# Altium schematic symbol library HydrogreenSchematicLibrary.SchLib: 60 symbols (part 3 of 4)
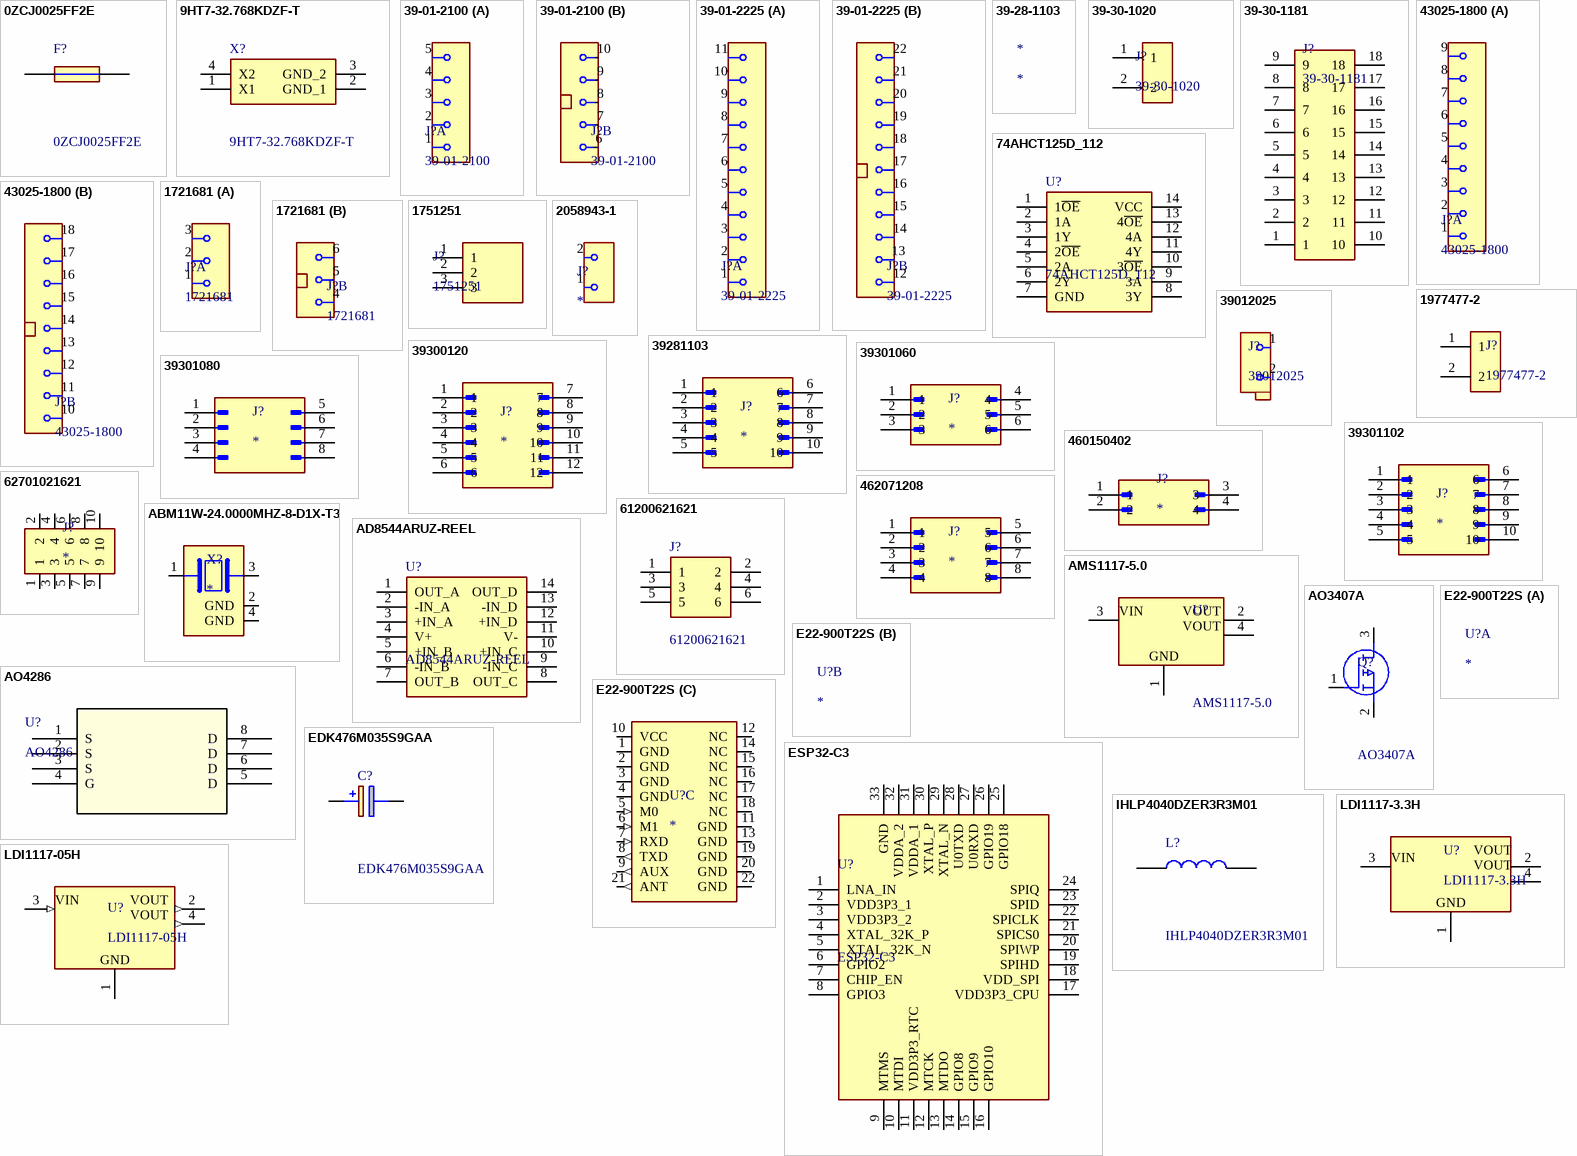
[diagram p3: symbols 0ZCJ0025FF2E to LDI1117-05H]

## IHLP4040DZER3R3M01
designator L?
Inductor High Current Shielded Wirewound 3.3uH 20% 100KHz 10A 11.8mOhm DCR 4040 T/R; Manufacturer_Name: Vishay; Geometry.Height: 4mm; Core Material: Composite; DC Resistance (DCR): 11.8mΩ; Value: 3.3µH; Max DC Current: 18.6A; Number of Circuits: 1; Self Resonant Frequency: 5MHz; ESR: 14.4mΩ; Shielding: Yes; Manufacturer_Part_Number: IHLP4040DZER3R3M01; Mouser Part Number: 70-IHLP4040DZER3R3M0; Mouser Price/Stock: https://www.mouser.co.uk/ProductDetail/Vishay-Dale/IHLP4040DZER3R3M01?qs=UUKq9QDXQ0nKJM%252B3xlQGHA%3D%3D; Arrow Part Number: IHLP4040DZER3R3M01; Arrow Price/Stock: https://www.arrow.com/en/products/ihlp4040dzer3r3m01/vishay?region=nac; Datasheet Link: https://www.vishay.com/docs/34193/ihlp-4040dz-01.pdf; Supplier: Farnell; Supplier Part Number: 1547037; Manufacturer: Vishay; Manufacturer Part Number: IHLP4040DZER3R3M01; RoHS: Compliant; Category: Fixed Inductors; Stock: 559; Case/Package: 4040; Case Code (Imperial): 4040; China RoHS: Compliant; Composition: Wirewound; Contact Plating: Tin; Current Rating: 10A; Depth: 10.3mm; Height: 4mm; Height - Seated (Max): 3.9878mm; Inductance Tolerance: 20%; Lead Free: Lead Free; Lifecycle Status: Production; Max Current Rating: 10A; Max Operating Temperature: 125°C; Military Standard: Not; Min Operating Temperature: -55°C; Mounting Technology: Surface Mount; Number of Terminals: 2; Radiation Hardening: No; REACH SVHC: Yes; RMS Current (Irms): 10A; Saturation Current: 18.6A; Schedule B: 8504500000, 8504500000|8504500000|8504500000|8504500000|8504500000; Termination: SMD/SMT; Test Frequency: 100kHz; Tolerance: 20%; Weight: 2.000002g; Width: 10.16mm; ComponentLink1URL: https://datasheet.octopart.com:443/IHLP4040DZER3R3M01-Vishay-datasheet-181468593.pdf?src-supplier=IHS; ComponentLink1Description: https://datasheet.octopart.com:443/IHLP4040DZER3R3M01-Vishay-datasheet-181468593.pdf?src-supplier=IHS; ComponentLink2URL: https://datasheet.octopart.com:443/IHLP4040DZER3R3M01-Vishay-Dale-datasheet-181465866.pdf?src-supplier=IHS; ComponentLink2Description: https://datasheet.octopart.com:443/IHLP4040DZER3R3M01-Vishay-Dale-datasheet-181465866.pdf?src-supplier=IHS; ComponentLink3URL: https://datasheet.octopart.com:443/IHLP4040DZER3R3M01-Vishay-datasheet-67039456.pdf?src-supplier=Farnell; ComponentLink3Description: https://datasheet.octopart.com:443/IHLP4040DZER3R3M01-Vishay-datasheet-67039456.pdf?src-supplier=Farnell; ComponentLink4URL: https://datasheet.octopart.com:443/IHLP4040DZER3R3M01-Vishay-datasheet-167142.pdf?src-supplier=Farnell; ComponentLink4Description: https://datasheet.octopart.com:443/IHLP4040DZER3R3M01-Vishay-datasheet-167142.pdf?src-supplier=Farnell; ComponentLink5URL: https://datasheet.octopart.com/IHLP4040DZER3R3M01-Vishay-datasheet-12542609.pdf; ComponentLink5Description: https://datasheet.octopart.com/IHLP4040DZER3R3M01-Vishay-datasheet-12542609.pdf; ComponentLink6URL: https://datasheet.octopart.com/IHLP4040DZER3R3M01-Vishay-datasheet-12537444.pdf; ComponentLink6Description: https://datasheet.octopart.com/IHLP4040DZER3R3M01-Vishay-datasheet-12537444.pdf; ComponentLink7URL: https://datasheet.octopart.com/IHLP4040DZER3R3M01-Vishay-datasheet-12514016.pdf; ComponentLink7Description: https://datasheet.octopart.com/IHLP4040DZER3R3M01-Vishay-datasheet-12514016.pdf; ComponentLink8URL: https://datasheet.octopart.com/IHLP4040DZER3R3M01-Vishay-datasheet-5394347.pdf; ComponentLink8Description: https://datasheet.octopart.com/IHLP4040DZER3R3M01-Vishay-datasheet-5394347.pdf; ComponentLink9URL: https://datasheet.octopart.com:443/IHLP4040DZER3R3M01-Vishay-datasheet-8434461.pdf?src-supplier=Newark; ComponentLink9Description: https://datasheet.octopart.com:443/IHLP4040DZER3R3M01-Vishay-datasheet-8434461.pdf?src-supplier=Newark; ComponentLink10URL: https://datasheet.octopart.com:443/IHLP4040DZER3R3M01-Vishay-datasheet-62320562.pdf?src-supplier=element14+APAC; ComponentLink10Description: https://datasheet.octopart.com:443/IHLP4040DZER3R3M01-Vishay-datasheet-62320562.pdf?src-supplier=element14+APAC; ComponentLink11URL: https://datasheet.octopart.com:443/IHLP4040DZER3R3M01-Vishay-datasheet-101783941.pdf?src-supplier=Future+Electronics; ComponentLink11Description: https://datasheet.octopart.com:443/IHLP4040DZER3R3M01-Vishay-datasheet-101783941.pdf?src-supplier=Future+Electronics; ComponentLink12URL: https://datasheet.octopart.com:443/IHLP4040DZER3R3M01-Vishay-datasheet-12531877.pdf?src-supplier=Future+Electronics; ComponentLink12Description: https://datasheet.octopart.com:443/IHLP4040DZER3R3M01-Vishay-datasheet-12531877.pdf?src-supplier=Future+Electronics; ComponentLink13URL: https://datasheet.octopart.com:443/IHLP4040DZER3R3M01-Vishay-Dale-datasheet-42936488.pdf?src-supplier=RS+(Formerly+Allied+Electronics); ComponentLink13Description: https://datasheet.octopart.com:443/IHLP4040DZER3R3M01-Vishay-Dale-datasheet-42936488.pdf?src-supplier=RS+(Formerly+Allied+Electronics); ComponentLink14URL: https://datasheet.octopart.com:443/IHLP4040DZER3R3M01-Vishay-datasheet-140572121.pdf?src-supplier=Arrow.cn; ComponentLink14Description: https://datasheet.octopart.com:443/IHLP4040DZER3R3M01-Vishay-datasheet-140572121.pdf?src-supplier=Arrow.cn; ComponentLink15URL: http://sigma.octopart.com:80/rohs_statement/Vishay-company-15.pdf?src-supplier=Compliance+Statements; ComponentLink15Description: http://sigma.octopart.com:80/rohs_statement/Vishay-company-15.pdf?src-supplier=Compliance+Statements
footprint IHLP4040DZER3R3M01
pins: 1, 2

## LDI1117-3.3H
designator U?
Fixed Positive LDO Regulator; Manufacturer: Diotec; Supplier: Mouser; Supplier Part Number: 637-LDI1117-3.3H; Manufacturer Part Number: LDI1117-3.3H; RoHS: No; Category: Voltage Regulators - Linear; Stock: 5056; Pricing: 1=0,4, 10=0,286, 50=0,286, 100=0,199, 1000=0,163, 10000=0,089 (USD); ComponentLink1URL: https://datasheet.octopart.com/LDI1117-3.3H-Diotec-datasheet-154607892.pdf?src-supplier=TME; ComponentLink1Description: https://datasheet.octopart.com/LDI1117-3.3H-Diotec-datasheet-154607892.pdf?src-supplier=TME; ComponentLink2URL: https://datasheet.octopart.com/LDI1117-3.3H-Diotec-datasheet-159101088.pdf?src-supplier=SOS+electronic; ComponentLink2Description: https://datasheet.octopart.com/LDI1117-3.3H-Diotec-datasheet-159101088.pdf?src-supplier=SOS+electronic; ComponentLink3URL: https://datasheet.octopart.com/LDI1117-3.3H-Diotec-datasheet-189099648.pdf?src-supplier=Master+Electronics; ComponentLink3Description: https://datasheet.octopart.com/LDI1117-3.3H-Diotec-datasheet-189099648.pdf?src-supplier=Master+Electronics
footprint LDI1117-3.3H (LDI1117-3.3H, 4-Leads)
pins: 1, 2 (power), 3 (power), 4 (power)
text: VOUT; VIN; GND

## LDI1117-05H
designator U?
Fixed Positive LDO Regulator; Manufacturer: Diotec; Supplier: Farnell; Supplier Part Number: 4553249; Manufacturer Part Number: LDI1117-05H; RoHS: No; Category: Voltage Regulators - Linear; Stock: 720; RoHS Compliant: Yes; ComponentLink1URL: http://datasheet.octopart.com/LDI1117-05H-Diotec-datasheet-154607892.pdf?src-supplier=Mouser; ComponentLink1Description: http://datasheet.octopart.com/LDI1117-05H-Diotec-datasheet-154607892.pdf?src-supplier=Mouser; ComponentLink2URL: http://datasheet.octopart.com/LDI1117-05H-Diotec-datasheet-154607892.pdf?src-supplier=Distrelec; ComponentLink2Description: http://datasheet.octopart.com/LDI1117-05H-Diotec-datasheet-154607892.pdf?src-supplier=Distrelec; ComponentLink3URL: http://datasheet.octopart.com/LDI1117-05H-Diotec-datasheet-154607892.pdf?src-supplier=Onlinecomponents.com; ComponentLink3Description: http://datasheet.octopart.com/LDI1117-05H-Diotec-datasheet-154607892.pdf?src-supplier=Onlinecomponents.com; ComponentLink4URL: http://datasheet.octopart.com/LDI1117-05H-Diotec-datasheet-154607892.pdf?src-supplier=DComponents; ComponentLink4Description: http://datasheet.octopart.com/LDI1117-05H-Diotec-datasheet-154607892.pdf?src-supplier=DComponents; ComponentLink5URL: https://datasheet.octopart.com/LDI1117-05H-Diotec-datasheet-154607892.pdf?src-supplier=TME; ComponentLink5Description: https://datasheet.octopart.com/LDI1117-05H-Diotec-datasheet-154607892.pdf?src-supplier=TME; ComponentLink6URL: https://datasheet.octopart.com/LDI1117-05H-Diotec-datasheet-159101088.pdf?src-supplier=SOS+electronic; ComponentLink6Description: https://datasheet.octopart.com/LDI1117-05H-Diotec-datasheet-159101088.pdf?src-supplier=SOS+electronic; ComponentLink7URL: http://datasheet.octopart.com/LDI1117-05H-Diotec-datasheet-154607892.pdf?src-supplier=Electro+Sonic; ComponentLink7Description: http://datasheet.octopart.com/LDI1117-05H-Diotec-datasheet-154607892.pdf?src-supplier=Electro+Sonic; ComponentLink8URL: https://datasheet.octopart.com/LDI1117-05H-Diotec-datasheet-189099648.pdf?src-supplier=Master+Electronics; ComponentLink8Description: https://datasheet.octopart.com/LDI1117-05H-Diotec-datasheet-189099648.pdf?src-supplier=Master+Electronics
footprint LDI1117-05H (SOT223, 4-Leads)
pins: 1, 2 (out), 3 (in), 4 (out)
text: VIN; VOUT; GND

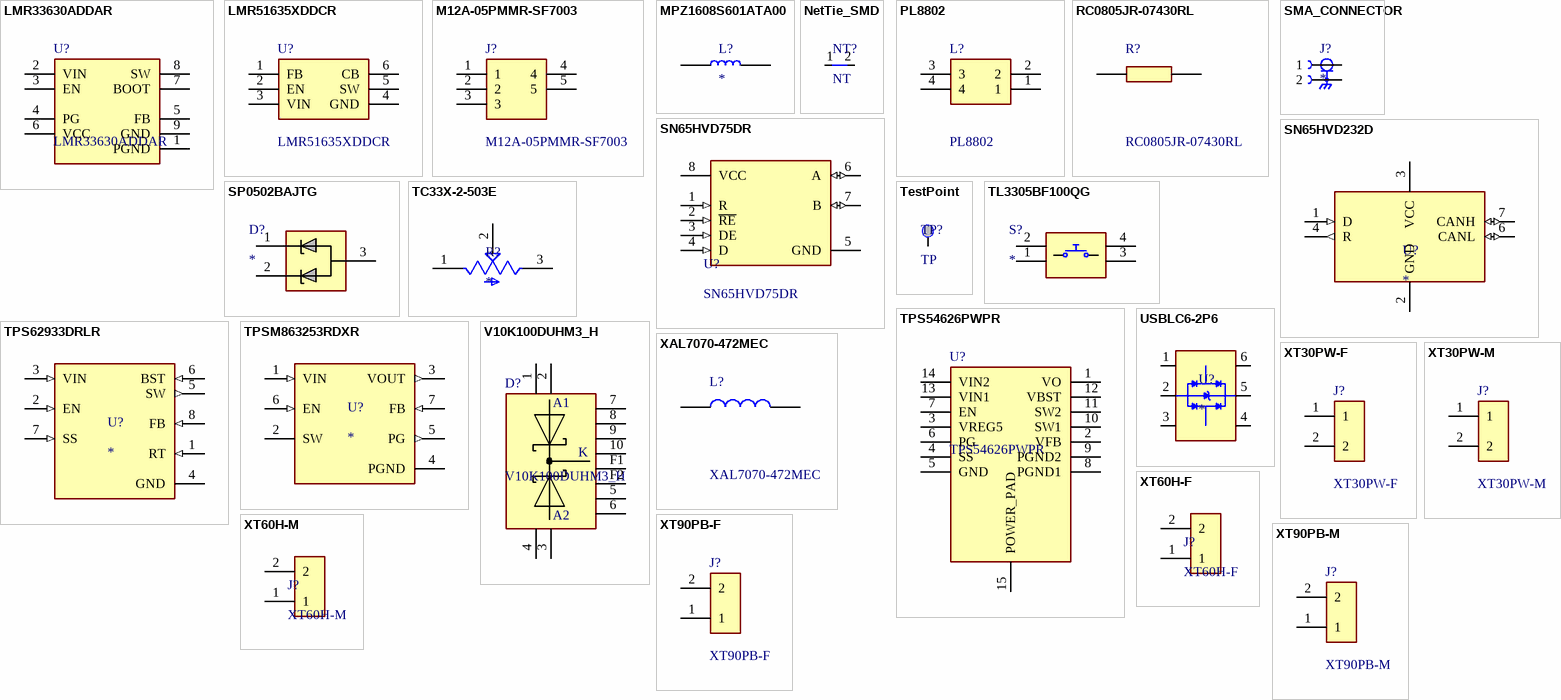
[diagram p1: symbols LMR33630ADDAR to XT90PB-M]

## LMR33630ADDAR
designator U?
SIMPLE SWITCHER® 3.8V to 36V, 3A Synchronous Buck Converter With Ultra-Low EMI 8-SO PowerPAD -40 to 125; Manufacturer_Name: Texas Instruments; Manufacturer Lifecycle Status: ACTIVE; Geometry.Height: 1.7mm; Max Duty Cycle: 98%; Max Junction Temperature (Tj): 150°C; Nominal Supply Current: 24µA; Number of Channels: 1; Switching Frequency: 400kHz; Manufacturer_Part_Number: LMR33630ADDAR; Mouser Part Number: 595-LMR33630ADDAR; Mouser Price/Stock: https://www.mouser.co.uk/ProductDetail/Texas-Instruments/LMR33630ADDAR?qs=r5DSvlrkXmJQkBTqgVdiDA%3D%3D; Arrow Part Number: LMR33630ADDAR; Arrow Price/Stock: https://www.arrow.com/en/products/lmr33630addar/texas-instruments?utm_currency=USD&region=nac; Datasheet Link: http://www.ti.com/lit/gpn/lmr33630; Supplier: DigiKey; Supplier Part Number: 296-49763-1-ND; Manufacturer: Texas Instruments; Manufacturer Part Number: LMR33630ADDAR; RoHS: Compliant; Category: Voltage Regulators - Switching; Stock: 3306; Pricing: 1=2,55, 10=1,895, 25=1,732, 100=1,5527, 250=1,4672, 500=1,41566, 1000=1,37324 (USD); Height: 1.7mm; Length: 4.89mm; Lifecycle Status: Production; Max Operating Temperature: 125°C; Max Supply Voltage: 36V; Min Operating Temperature: -40°C; Min Supply Voltage: 3.8V; Number of Outputs: 1; Pins: 8; Output Current: 3A; Schedule B: 8542390000; Thickness: 1.48mm; Topology: Buck; Width: 3.9mm; ComponentLink1URL: https://octopart.com:443/opatz8j6/c1?t=vB-rOmDI1ErJ0w3fCj8NLsfgClszgTUVbAqCYHM5mRqgzR9RBB5Pla--LZzs2g-5lBj7oDBEHLOY0DNQ8kiPC6C8g1CaFcIk5xusZs0FtDRH-CQ1FAZX0wQ7Af0vopd1OvNJ_Hrieycu-9D8HxSeoZovH4OJEcn7j74SeItdt-lCJsWpQWgV8-mVR1JIQ1KywJKCZ68bDiAWG91PubKPct48upMq1AnCkLHjDL3bhpicF0q3kjtxBAWzeDQzkpoQooz9GAvObiI6PlzZfk112pcCDh0P81IWp_Rr5acb26OlKDk2j5b40au3vy2C1-LFGDaZycRESUfyv9lqHnr9FsK7A0AJECnAAloOYp_c-_g9Mk5jVvAjSOs1Y_7rtCi9vouLs8vl&src-supplier=Texas+Instruments; ComponentLink1Description: https://octopart.com:443/opatz8j6/c1?t=vB-rOmDI1ErJ0w3fCj8NLsfgClszgTUVbAqCYHM5mRqgzR9RBB5Pla--LZzs2g-5lBj7oDBEHLOY0DNQ8kiPC6C8g1CaFcIk5xusZs0FtDRH-CQ1FAZX0wQ7Af0vopd1OvNJ_Hrieycu-9D8HxSeoZovH4OJEcn7j74SeItdt-lCJsWpQWgV8-mVR1JIQ1KywJKCZ68bDiAWG91PubKPct48upMq1AnCkLHjDL3bhpicF0q3kjtxBAWzeDQzkpoQooz9GAvObiI6PlzZfk112pcCDh0P81IWp_Rr5acb26OlKDk2j5b40au3vy2C1-LFGDaZycRESUfyv9lqHnr9FsK7A0AJECnAAloOYp_c-_g9Mk5jVvAjSOs1Y_7rtCi9vouLs8vl&src-supplier=Texas+Instruments; ComponentLink2URL: https://sigma.octopart.com:443/104526336/technical_drawing/Texas-Instruments-LMR33630ADDAR.pdf?src-supplier=Texas+Instruments; ComponentLink2Description: https://sigma.octopart.com:443/104526336/technical_drawing/Texas-Instruments-LMR33630ADDAR.pdf?src-supplier=Texas+Instruments; ComponentLink3URL: https://sigma.octopart.com:443/49250132/technical_drawing/Texas-Instruments-LMR33630ADDAR.pdf?src-supplier=Texas+Instruments; ComponentLink3Description: https://sigma.octopart.com:443/49250132/technical_drawing/Texas-Instruments-LMR33630ADDAR.pdf?src-supplier=Texas+Instruments; ComponentLink4URL: https://datasheet.octopart.com:443/LMR33630ADDAR-Texas-Instruments-datasheet-148393519.pdf?src-supplier=Upverter; ComponentLink4Description: https://datasheet.octopart.com:443/LMR33630ADDAR-Texas-Instruments-datasheet-148393519.pdf?src-supplier=Upverter; ComponentLink5URL: https://datasheet.octopart.com:443/LMR33630ADDAR-Texas-Instruments-datasheet-163730535.pdf?src-supplier=LCSC; ComponentLink5Description: https://datasheet.octopart.com:443/LMR33630ADDAR-Texas-Instruments-datasheet-163730535.pdf?src-supplier=LCSC; ComponentLink6URL: http://sigma.octopart.com:80/reach_statement/Texas-Instruments-company-64.pdf?src-supplier=Compliance+Statements; ComponentLink6Description: http://sigma.octopart.com:80/reach_statement/Texas-Instruments-company-64.pdf?src-supplier=Compliance+Statements; ComponentLink7URL: http://sigma.octopart.com:80/conflict_mineral_statement/Texas-Instruments-company-63.pdf?src-supplier=Compliance+Statements; ComponentLink7Description: http://sigma.octopart.com:80/conflict_mineral_statement/Texas-Instruments-company-63.pdf?src-supplier=Compliance+Statements
footprint LMR33630ADDAR
pins: 1 PGND, 2 VIN, 3 EN, 4 PG, 5 FB, 6 VCC, 7 BOOT, 8 SW, 9 GND

## LMR51635XDDCR
designator U?
SIMPLE SWITCHER® synchronous buck converter with 4.3V-to-60V, 3.5A and low quiescent current 6-SOT-23-THIN -40 to 150; Manufacturer_Name: Texas Instruments; Manufacturer Lifecycle Status: ACTIVE; Geometry.Height: 1.1mm; Manufacturer_Part_Number: LMR51635XDDCR; Mouser Part Number: 595-LMR51635XDDCR; Mouser Price/Stock: https://www.mouser.co.uk/ProductDetail/Texas-Instruments/LMR51635XDDCR?qs=a2MtRaTmNORRY9iTmYV%2Fiw%3D%3D; Arrow Part Number: LMR51635XDDCR; Arrow Price/Stock: https://www.arrow.com/en/products/lmr51635xddcr/texas-instruments.html?utm_currency=USD&region=nac; Datasheet Link: https://www.ti.com/lit/gpn/lmr51635; Supplier: DigiKey; Supplier Part Number: 296-LMR51635XDDCRTR-ND; Manufacturer: Texas Instruments; Manufacturer Part Number: LMR51635XDDCR; RoHS: Compliant; Category: Voltage Regulators - Switching; Pricing: 3000=1,10746, 6000=1,08526, 9000=1,07414 (USD); Height: 1.1mm; Length: 2.9mm; Lifecycle Status: Production; Pins: 6; Thickness: 870µm; Topology: Buck; Width: 1.6mm; ComponentLink1URL: https://sigma.octopart.com:443/180581133/technical_drawing/Texas-Instruments-LMR51635XDDCR.pdf?src-supplier=Texas+Instruments; ComponentLink1Description: https://sigma.octopart.com:443/180581133/technical_drawing/Texas-Instruments-LMR51635XDDCR.pdf?src-supplier=Texas+Instruments; ComponentLink2URL: https://octopart.com:443/opatz8j6/c1?t=zYAcKO1b2BuCjQqHJRk95iTfK4iB_yHLSmTWd_qv9lrRVn0ee9w5Fogr-IpSDf9nujr5PsrcF1pW8mdDUbSPd080MnVaAFboPnr7Qg4PARm9QmOo_OlA32xGNCaFVXUnWENUQXHepp5JsRY8FtOSKtsYIYA8JqdrZ1FpDRG1K42uV8Id80lHWwzz25ige_A8eS7EUGoUqWm9QsfjiKgygmFSagWtonOXSl0D9zPtjFpvpUrjgxxXhGMxWd9CPkqF7o9dmPS-j41oLprCi030Yezu5ft5kMmDUBcXrU_soKh1X_gZX2R2Z1thJUqeN5FQwSguqfC1AxhgS_q1FOAxiFuiCfK0s3IV4lUrRa5IZLyuWzwJYxQyu58VazSqZz7L1McKq_h3dA&src-supplier=Texas+Instruments; ComponentLink2Description: https://octopart.com:443/opatz8j6/c1?t=zYAcKO1b2BuCjQqHJRk95iTfK4iB_yHLSmTWd_qv9lrRVn0ee9w5Fogr-IpSDf9nujr5PsrcF1pW8mdDUbSPd080MnVaAFboPnr7Qg4PARm9QmOo_OlA32xGNCaFVXUnWENUQXHepp5JsRY8FtOSKtsYIYA8JqdrZ1FpDRG1K42uV8Id80lHWwzz25ige_A8eS7EUGoUqWm9QsfjiKgygmFSagWtonOXSl0D9zPtjFpvpUrjgxxXhGMxWd9CPkqF7o9dmPS-j41oLprCi030Yezu5ft5kMmDUBcXrU_soKh1X_gZX2R2Z1thJUqeN5FQwSguqfC1AxhgS_q1FOAxiFuiCfK0s3IV4lUrRa5IZLyuWzwJYxQyu58VazSqZz7L1McKq_h3dA&src-supplier=Texas+Instruments; ComponentLink3URL: https://datasheet.octopart.com:443/LMR51635XDDCR-Texas-Instruments-datasheet-190072754.pdf?src-supplier=LCSC; ComponentLink3Description: https://datasheet.octopart.com:443/LMR51635XDDCR-Texas-Instruments-datasheet-190072754.pdf?src-supplier=LCSC; ComponentLink4URL: http://sigma.octopart.com:80/reach_statement/Texas-Instruments-company-64.pdf?src-supplier=Compliance+Statements; ComponentLink4Description: http://sigma.octopart.com:80/reach_statement/Texas-Instruments-company-64.pdf?src-supplier=Compliance+Statements; ComponentLink5URL: http://sigma.octopart.com:80/conflict_mineral_statement/Texas-Instruments-company-63.pdf?src-supplier=Compliance+Statements; ComponentLink5Description: http://sigma.octopart.com:80/conflict_mineral_statement/Texas-Instruments-company-63.pdf?src-supplier=Compliance+Statements
footprint LMR51635XDDCR
pins: 1 FB, 2 EN, 3 VIN, 4 GND, 5 SW, 6 CB

## M12A-05PMMR-SF7003
designator J?
M12, A Code, 4A, 05 pins, Male Contact, Hexagonal, M12*1.0, PCB 90ø, Front Fastened, IP67; Manufacturer_Name: Amphenol; Manufacturer: Amphenol LTW; Geometry.Height: 15mm; Connector Type: Signal; Number of Positions: 5; Voltage Rating: 60V; Manufacturer_Part_Number: M12A-05PMMR-SF7003; Mouser Part Number: 523-M12A05PMMRSF7003; Mouser Price/Stock: https://www.mouser.co.uk/ProductDetail/Amphenol-LTW/M12A-05PMMR-SF7003?qs=f9yNj16SXrIdWSE1H9dLLQ%3D%3D; Arrow Part Number: M12A-05PMMR-SF7003; Arrow Price/Stock: https://www.arrow.com/en/products/m12a-05pmmr-sf7003/amphenol?utm_currency=USD&region=nac; Datasheet Link: https://amphenolltw.com/down.php?prod_files=605433; Supplier: Avnet; Supplier Part Number: 50AC2957; Manufacturer Part Number: M12A-05PMMR-SF7003; RoHS: Compliant; Category: Circular Connectors; Stock: 32; Current Rating: 4A; Gender: Male; Lifecycle Status: Production; Pins: 5; ComponentLink1URL: https://datasheet.octopart.com:443/M12A-05PMMR-SF7003-Amphenol-datasheet-182346588.pdf?src-supplier=IHS; ComponentLink1Description: https://datasheet.octopart.com:443/M12A-05PMMR-SF7003-Amphenol-datasheet-182346588.pdf?src-supplier=IHS; ComponentLink2URL: https://datasheet.octopart.com:443/M12A-05PMMR-SF7003-Amphenol-LTW-datasheet-184719079.pdf?src-supplier=TME; ComponentLink2Description: https://datasheet.octopart.com:443/M12A-05PMMR-SF7003-Amphenol-LTW-datasheet-184719079.pdf?src-supplier=TME; ComponentLink3URL: https://datasheet.octopart.com:443/M12A-05PMMR-SF7003-Amphenol-LTW-datasheet-180194516.pdf?src-supplier=JRH+Electronics; ComponentLink3Description: https://datasheet.octopart.com:443/M12A-05PMMR-SF7003-Amphenol-LTW-datasheet-180194516.pdf?src-supplier=JRH+Electronics
footprint M12A05PMMRSF7003
pins: 1, 2, 3, 4, 5

## MPZ1608S601ATA00
designator L?
Ferrite Beads Multi-Layer 600Ohm 25% 100MHz 1A 0.15Ohm DCR 0603 T/R; Manufacturer Lifecycle Status: PRODUCTION; MF: TDK; MP: MPZ1608S601ATA00; DC Resistance (DCR): 150mΩ; Impedance: 600Ω; Number of Circuits: 1; SnapEDA_Link: https://www.snapeda.com/parts/MPZ1608S601ATA00/TDK/view-part/?ref=snap; Package: 0603 TDK; Value: *; Check_prices: https://www.snapeda.com/parts/MPZ1608S601ATA00/TDK/view-part/?ref=eda; Supplier: Farnell; Supplier Part Number: 2800777; Manufacturer: TDK; Manufacturer Part Number: MPZ1608S601ATA00; RoHS: Compliant; Category: Ferrite Beads and Chips; Stock: 80000; Case/Package: 0603; Case Code (Imperial): 0603; Case Code (Metric): 1608; China RoHS: Compliant; Core Material: Ferrite; Current Rating: 1A; Depth: 800µm; Height: 800µm; Lead Free: Lead Free; Length: 1.6mm; Lifecycle Status: Production; Max DC Current: 1A; Clock Frequency: 100MHz; Max Length: 1.75mm; Max Operating Temperature: 125°C; Max Width: 950µm; Min Length: 1.45mm; Min Operating Temperature: -55°C; Min Width: 650µm; Mounting Technology: Surface Mount; Number of Terminals: 2; Packaging: Cut Tape; REACH SVHC: Yes; RMS Current (Irms): 1A; Schedule B: 8504500000, 8504500000|8504500000|8504500000|8504500000|8504500000; ESR: 150mΩ; Termination: SMD/SMT; Test Frequency: 100MHz; Tolerance: 25%; Weight: 2.012816mg; Width: 800µm; ComponentLink1URL: https://datasheet.octopart.com:443/MPZ1608S601ATA00-TDK-datasheet-155380319.pdf?src-supplier=TDK; ComponentLink1Description: https://datasheet.octopart.com:443/MPZ1608S601ATA00-TDK-datasheet-155380319.pdf?src-supplier=TDK; ComponentLink2URL: https://datasheet.octopart.com:443/MPZ1608S601ATA00-TDK-datasheet-141913842.pdf?src-supplier=TME; ComponentLink2Description: https://datasheet.octopart.com:443/MPZ1608S601ATA00-TDK-datasheet-141913842.pdf?src-supplier=TME; ComponentLink3URL: https://datasheet.octopart.com:443/MPZ1608S601ATA00-TDK-datasheet-82475260.pdf?src-supplier=Newark; ComponentLink3Description: https://datasheet.octopart.com:443/MPZ1608S601ATA00-TDK-datasheet-82475260.pdf?src-supplier=Newark; ComponentLink4URL: https://datasheet.octopart.com:443/MPZ1608S601ATA00-TDK-datasheet-99917310.pdf?src-supplier=Newark; ComponentLink4Description: https://datasheet.octopart.com:443/MPZ1608S601ATA00-TDK-datasheet-99917310.pdf?src-supplier=Newark; ComponentLink5URL: https://datasheet.octopart.com:443/MPZ1608S601ATA00-TDK-datasheet-8852356.pdf?src-supplier=Newark; ComponentLink5Description: https://datasheet.octopart.com:443/MPZ1608S601ATA00-TDK-datasheet-8852356.pdf?src-supplier=Newark; ComponentLink6URL: https://datasheet.octopart.com:443/MPZ1608S601ATA00-TDK-datasheet-21631858.pdf?src-supplier=Farnell; ComponentLink6Description: https://datasheet.octopart.com:443/MPZ1608S601ATA00-TDK-datasheet-21631858.pdf?src-supplier=Farnell; ComponentLink7URL: https://datasheet.octopart.com:443/MPZ1608S601ATA00-TDK-datasheet-38423207.pdf?src-supplier=Future+Electronics; ComponentLink7Description: https://datasheet.octopart.com:443/MPZ1608S601ATA00-TDK-datasheet-38423207.pdf?src-supplier=Future+Electronics
footprint INDC1608X95N
pins: 1, 2

## NetTie_SMD
designator NT?, comment NT  (net tie, no BOM)
Net Tie SMD
footprint NetTie_SMD
pins: 1, 2

## PL8802
designator L?
Common Mode Choke, 3000uH, 30%, 2 Element, SMD, 9170; Manufacturer_Name: iNRCORE; Geometry.Height: 13.2mm; Current Rating: 2.5A; DC Resistance (DCR): 80mΩ; Value: 3mH; Number of Circuits: 2; Self Resonant Frequency: 2.2MHz; Shielding: Unshielded; Voltage Rating: 250V; Manufacturer_Part_Number: PL8802; Mouser Part Number: 673-PL8802; Mouser Price/Stock: https://www.mouser.co.uk/ProductDetail/iNRCORE/PL8802?qs=BZBei1rCqCCAwZH68Kczkw%3D%3D; Arrow Part Number: *; Arrow Price/Stock: *; Datasheet Link: https://www.mouser.co.uk/datasheet/2/937/M116-1384936.pdf; Supplier: Mouser; Supplier Part Number: 673-PL8802; Manufacturer: iNRCORE; Manufacturer Part Number: PL8802; Category: Fixed Inductors; Stock: 195; Pricing: 1=16,33, 10=16,32, 50=14,59, 100=14,59, 1000=13,36, 10000=13,36 (USD); Export Control Classification Number (ECCN) Code: EAR99; Height: 12.95mm; Harmonized Tariff Schedule (HTS) Code: 8504.50.80.00; Introduction Date: 2006-02-14; Length: 23.11mm; Lifecycle Status: Production; Max Current Rating: 2.5A; Max Operating Temperature: 130°C; Min Operating Temperature: -55°C; Number of Terminals: 4; Tolerance: 30%; Width: 17.78mm; ComponentLink1URL: https://datasheet.octopart.com:443/PL8802-iNRCORE-datasheet-180095662.pdf?src-supplier=IHS; ComponentLink1Description: https://datasheet.octopart.com:443/PL8802-iNRCORE-datasheet-180095662.pdf?src-supplier=IHS
footprint PL8802
pins: 1, 2, 3, 4

## RC0805JR-07430RL
designator R?
RC Series 0805 0.125 W 430 Ohm ±5% ±100 ppm/°C SMT Thick Film Chip Resistor; Manufacturer_Name: Yageo Group; Geometry.Height: 0.6mm; Max Power Dissipation: 125mW; Value: 430Ω; Voltage Rating: 150V; Manufacturer_Part_Number: RC0805JR-07430RL; Mouser Part Number: *; Mouser Price/Stock: *; Arrow Part Number: *; Arrow Price/Stock: *; Datasheet Link: http://www.yageo.com/documents/recent/PYu-RC_Group_51_RoHS_L_10.pdf; Supplier: Farnell; Supplier Part Number: 3496126; Manufacturer: Yageo Group; Manufacturer Part Number: RC0805JR-07430RL; RoHS: Compliant; Category: Chip SMD Resistors; Stock: 10100; Case/Package: 0805; Case Code (Imperial): 0805; China RoHS: Non-Compliant; Composition: Thick Film; Contact Plating: Lead, Tin; Depth: 1.25mm; Features: Moisture Resistant; Height: 500µm; Lead Free: Lead Free; Length: 2mm; Lifecycle Status: Production; Max Operating Temperature: 155°C; Military Standard: Not; Min Operating Temperature: -55°C; Mounting Technology: Surface Mount; Number of Terminals: 2; Number of Terminations: 2; Packaging: Tape & Reel; Power Dissipation: 125mW; Power Rating: 125mW; Radiation Hardening: No; REACH SVHC: Yes; Schedule B: 8533210045, 8533210045|8533210045|8533210045|8533210045|8533210045; Temperature Coefficient: 100ppm/°C; Termination: SMD/SMT; Tolerance: 5%; Voltage Rating (DC): 150V; Weight: 5.499807mg; Width: 1.25mm; Working Voltage: 150V; ComponentLink1URL: https://datasheet.octopart.com:443/RC0805JR-07430RL-Yageo-datasheet-175887523.pdf?src-supplier=Newark; ComponentLink1Description: https://datasheet.octopart.com:443/RC0805JR-07430RL-Yageo-datasheet-175887523.pdf?src-supplier=Newark; ComponentLink2URL: https://datasheet.octopart.com:443/RC0805JR-07430RL-Yageo-Group-datasheet-190305687.pdf?src-supplier=Future+Electronics; ComponentLink2Description: https://datasheet.octopart.com:443/RC0805JR-07430RL-Yageo-Group-datasheet-190305687.pdf?src-supplier=Future+Electronics; ComponentLink3URL: https://datasheet.octopart.com:443/RC0805JR-07430RL-Yageo-datasheet-164759695.pdf?src-supplier=Future+Electronics; ComponentLink3Description: https://datasheet.octopart.com:443/RC0805JR-07430RL-Yageo-datasheet-164759695.pdf?src-supplier=Future+Electronics; ComponentLink4URL: https://datasheet.octopart.com:443/RC0805JR-07430RL-Yageo-datasheet-12592811.pdf?src-supplier=Future+Electronics; ComponentLink4Description: https://datasheet.octopart.com:443/RC0805JR-07430RL-Yageo-datasheet-12592811.pdf?src-supplier=Future+Electronics; ComponentLink5URL: https://datasheet.octopart.com:443/RC0805JR-07430RL-Yageo-datasheet-8324252.pdf?src-supplier=Future+Electronics; ComponentLink5Description: https://datasheet.octopart.com:443/RC0805JR-07430RL-Yageo-datasheet-8324252.pdf?src-supplier=Future+Electronics; ComponentLink6URL: https://datasheet.octopart.com:443/RC0805JR-07430RL-Yageo-datasheet-8330313.pdf?src-supplier=TME; ComponentLink6Description: https://datasheet.octopart.com:443/RC0805JR-07430RL-Yageo-datasheet-8330313.pdf?src-supplier=TME; ComponentLink7URL: https://datasheet.octopart.com/RC0805JR-07430RL-Yageo-datasheet-73766026.pdf; ComponentLink7Description: https://datasheet.octopart.com/RC0805JR-07430RL-Yageo-datasheet-73766026.pdf; ComponentLink8URL: https://datasheet.octopart.com:443/RC0805JR-07430RL-Yageo-datasheet-118657.pdf?src-supplier=DigiKey; ComponentLink8Description: https://datasheet.octopart.com:443/RC0805JR-07430RL-Yageo-datasheet-118657.pdf?src-supplier=DigiKey; ComponentLink9URL: http://sigma.octopart.com:80/conflict_mineral_statement/Yageo-company-3.pdf?src-supplier=Compliance+Statements; ComponentLink9Description: http://sigma.octopart.com:80/conflict_mineral_statement/Yageo-company-3.pdf?src-supplier=Compliance+Statements; ComponentLink10URL: http://sigma.octopart.com:80/rohs_statement/Yageo-company-2.pdf?src-supplier=Compliance+Statements; ComponentLink10Description: http://sigma.octopart.com:80/rohs_statement/Yageo-company-2.pdf?src-supplier=Compliance+Statements
footprint RC0805JR-07430RL
pins: 1, 2

## SMA_CONNECTOR
designator J?
Straight SMA Connector; MP: altium_native_batch; Value: *; Package: None; Availability: Unavailable; Price: None
footprint SMA_CONNECTOR
pins: 1, G1 2, G2 2, G3 2, G4 2

## SN65HVD75DR
designator U?
Single Transmitter/Receiver RS-422/RS-485 8-Pin SOIC T/R; Manufacturer: Texas Instruments; Manufacturer Lifecycle Status: ACTIVE; Data Rate: 20Mbps; Interface: RS-422, RS-485; Logic Function: Transceiver; Max Junction Temperature (Tj): 150°C; Max Supply Voltage: 3.6V; Min Supply Voltage: 3V; Nominal Supply Current: 950µA; Number of Drivers: 1; Operating Supply Voltage: 3.3V; Receiver Hysteresis: 80mV; Simplex/Duplex: Half Duplex; Supplier: DigiKey; Supplier Part Number: 296-38570-1-ND; Manufacturer Part Number: SN65HVD75DR; RoHS: Compliant; Category: RS-232 / RS-422 / RS-485 Interface ICs; Stock: 19374; Pricing: 1=2,18, 10=1,612, 25=1,4704, 100=1,3144, 250=1,24008, 500=1,19528, 1000=1,15839 (USD); Ambient Temperature Range High: 125°C; Case/Package: SOIC; Contact Plating: Gold; Height: 1.75mm; Lead Free: Lead Free; Length: 4.9mm; Lifecycle Status: Production; Max Operating Temperature: 125°C; Min Operating Temperature: -40°C; Pins: 8; Number of Receivers: 1; Number of Transceivers: 1; Number of Transmitters: 1; Packaging: Tape and Reel; Radiation Hardening: No; REACH SVHC: No; Schedule B: 8542390000, 8542390000|8542390000|8542390000|8542390000|8542390000; Thickness: 1.58mm; Width: 3.91mm; ComponentLink1URL: https://datasheet.octopart.com:443/SN65HVD75DR-Texas-Instruments-datasheet-22138306.pdf?src-supplier=Texas+Instruments; ComponentLink1Description: https://datasheet.octopart.com:443/SN65HVD75DR-Texas-Instruments-datasheet-22138306.pdf?src-supplier=Texas+Instruments; ComponentLink2URL: https://octopart.com:443/opatz8j6/c1?t=n-jLi9Hpj9Y1CtPvMq2wOWlt-fEIf69pcO_lcFh_oE0lP0UEYhb18J_Iy_8ZFNUCuyymRdaX8eMNg-AWn_ExZtGn32Zq0CkiG1pBHU4b6nja_Za_5YDFtI7XDIx6JgM7tTBVSWQxX3zpR6GJKtqTpFn4N3Px7iL7giCcRUdPhbCOuuMtZjzDAulhRL4-l8kJRFa8ZYcsDjWofUjrYJp33V_cFwj6fSgilYVUsUehb6BTYstndtkD3u_E8yWStnyvQ9RuB-KDft8Cssj0uzNxAssUSPlx5j82pqaHF34l0kh9MV0qibcgTRJzKY6eoGJoP4efwPiAV05SwETRDTp4KaeNuvVDeUjJsgbn-0JDhnvl-36UpEO5PxKaD1Xwrs2QC2UoaCMc&src-supplier=Texas+Instruments; ComponentLink2Description: https://octopart.com:443/opatz8j6/c1?t=n-jLi9Hpj9Y1CtPvMq2wOWlt-fEIf69pcO_lcFh_oE0lP0UEYhb18J_Iy_8ZFNUCuyymRdaX8eMNg-AWn_ExZtGn32Zq0CkiG1pBHU4b6nja_Za_5YDFtI7XDIx6JgM7tTBVSWQxX3zpR6GJKtqTpFn4N3Px7iL7giCcRUdPhbCOuuMtZjzDAulhRL4-l8kJRFa8ZYcsDjWofUjrYJp33V_cFwj6fSgilYVUsUehb6BTYstndtkD3u_E8yWStnyvQ9RuB-KDft8Cssj0uzNxAssUSPlx5j82pqaHF34l0kh9MV0qibcgTRJzKY6eoGJoP4efwPiAV05SwETRDTp4KaeNuvVDeUjJsgbn-0JDhnvl-36UpEO5PxKaD1Xwrs2QC2UoaCMc&src-supplier=Texas+Instruments; ComponentLink3URL: https://datasheet.octopart.com:443/SN65HVD75DR-Texas-Instruments-datasheet-17762390.pdf?src-supplier=Texas+Instruments; ComponentLink3Description: https://datasheet.octopart.com:443/SN65HVD75DR-Texas-Instruments-datasheet-17762390.pdf?src-supplier=Texas+Instruments; ComponentLink4URL: https://datasheet.octopart.com:443/SN65HVD75DR-Texas-Instruments-datasheet-13302759.pdf?src-supplier=Texas+Instruments; ComponentLink4Description: https://datasheet.octopart.com:443/SN65HVD75DR-Texas-Instruments-datasheet-13302759.pdf?src-supplier=Texas+Instruments; ComponentLink5URL: https://datasheet.octopart.com:443/SN65HVD75DR-Texas-Instruments-datasheet-12493769.pdf?src-supplier=Texas+Instruments; ComponentLink5Description: https://datasheet.octopart.com:443/SN65HVD75DR-Texas-Instruments-datasheet-12493769.pdf?src-supplier=Texas+Instruments; ComponentLink6URL: https://datasheet.octopart.com:443/SN65HVD75DR-Texas-Instruments-datasheet-11514831.pdf?src-supplier=Texas+Instruments; ComponentLink6Description: https://datasheet.octopart.com:443/SN65HVD75DR-Texas-Instruments-datasheet-11514831.pdf?src-supplier=Texas+Instruments; ComponentLink7URL: https://datasheet.octopart.com:443/SN65HVD75DR-Texas-Instruments-datasheet-10945678.pdf?src-supplier=Texas+Instruments; ComponentLink7Description: https://datasheet.octopart.com:443/SN65HVD75DR-Texas-Instruments-datasheet-10945678.pdf?src-supplier=Texas+Instruments; ComponentLink8URL: https://datasheet.octopart.com:443/SN65HVD75DR-Texas-Instruments-datasheet-10899452.pdf?src-supplier=Texas+Instruments; ComponentLink8Description: https://datasheet.octopart.com:443/SN65HVD75DR-Texas-Instruments-datasheet-10899452.pdf?src-supplier=Texas+Instruments; ComponentLink9URL: https://sigma.octopart.com:443/49249642/technical_drawing/Texas-Instruments-SN65HVD75DR.pdf?src-supplier=Texas+Instruments; ComponentLink9Description: https://sigma.octopart.com:443/49249642/technical_drawing/Texas-Instruments-SN65HVD75DR.pdf?src-supplier=Texas+Instruments; ComponentLink10URL: https://datasheet.octopart.com:443/SN65HVD75DR-Texas-Instruments-datasheet-47564841.pdf?src-supplier=Newark; ComponentLink10Description: https://datasheet.octopart.com:443/SN65HVD75DR-Texas-Instruments-datasheet-47564841.pdf?src-supplier=Newark; ComponentLink11URL: https://datasheet.octopart.com:443/SN65HVD75DR-Texas-Instruments-datasheet-62292549.pdf?src-supplier=Farnell; ComponentLink11Description: https://datasheet.octopart.com:443/SN65HVD75DR-Texas-Instruments-datasheet-62292549.pdf?src-supplier=Farnell; ComponentLink12URL: https://datasheet.octopart.com:443/SN65HVD75DR-Texas-Instruments-datasheet-67294880.pdf?src-supplier=Farnell; ComponentLink12Description: https://datasheet.octopart.com:443/SN65HVD75DR-Texas-Instruments-datasheet-67294880.pdf?src-supplier=Farnell; ComponentLink13URL: https://datasheet.octopart.com:443/SN65HVD75DR-Texas-Instruments-datasheet-165804306.pdf?src-supplier=LCSC; ComponentLink13Description: https://datasheet.octopart.com:443/SN65HVD75DR-Texas-Instruments-datasheet-165804306.pdf?src-supplier=LCSC; ComponentLink14URL: https://datasheet.octopart.com:443/SN65HVD75DR-Texas-Instruments-datasheet-159115721.pdf?src-supplier=LCSC; ComponentLink14Description: https://datasheet.octopart.com:443/SN65HVD75DR-Texas-Instruments-datasheet-159115721.pdf?src-supplier=LCSC; ComponentLink15URL: https://datasheet.octopart.com:443/SN65HVD75DR-Texas-Instruments-datasheet-164416300.pdf?src-supplier=SHENGYU+ELECTRONICS; ComponentLink15Description: https://datasheet.octopart.com:443/SN65HVD75DR-Texas-Instruments-datasheet-164416300.pdf?src-supplier=SHENGYU+ELECTRONICS; ComponentLink16URL: https://datasheet.octopart.com:443/SN65HVD75DR-Texas-Instruments-datasheet-137316104.pdf?src-supplier=Future+Electronics; ComponentLink16Description: https://datasheet.octopart.com:443/SN65HVD75DR-Texas-Instruments-datasheet-137316104.pdf?src-supplier=Future+Electronics; ComponentLink17URL: https://datasheet.octopart.com:443/SN65HVD75DR-Texas-Instruments-datasheet-140571633.pdf?src-supplier=Arrow.cn; ComponentLink17Description: https://datasheet.octopart.com:443/SN65HVD75DR-Texas-Instruments-datasheet-140571633.pdf?src-supplier=Arrow.cn; ComponentLink18URL: https://datasheet.octopart.com:443/SN65HVD75DR-Texas-Instruments-datasheet-11568815.pdf?src-supplier=Arrow+Electronics; ComponentLink18Description: https://datasheet.octopart.com:443/SN65HVD75DR-Texas-Instruments-datasheet-11568815.pdf?src-supplier=Arrow+Electronics; ComponentLink19URL: http://sigma.octopart.com:80/reach_statement/Texas-Instruments-company-64.pdf?src-supplier=Compliance+Statements; ComponentLink19Description: http://sigma.octopart.com:80/reach_statement/Texas-Instruments-company-64.pdf?src-supplier=Compliance+Statements; ComponentLink20URL: http://sigma.octopart.com:80/conflict_mineral_statement/Texas-Instruments-company-63.pdf?src-supplier=Compliance+Statements; ComponentLink20Description: http://sigma.octopart.com:80/conflict_mineral_statement/Texas-Instruments-company-63.pdf?src-supplier=Compliance+Statements
footprint SN65HVD75DR
pins: 1 R (in), 2 ~{RE} (in), 3 DE (in), 4 D (in), 5 GND (power), 6 A (io), 7 B (io), 8 VCC (power)

## SN65HVD232D
designator U?
Texas Instruments - SN65HVD232DR - Can Transceiver, 1MBPS, 1/1, 3.3V, SOIC-8, Full Reel; Manufacturer Lifecycle Status: ACTIVE; Max Supply Voltage: 3.6V; Min Supply Voltage: 3V; Nominal Supply Current: 17mA; Number of Drivers: 1; SnapEDA_Link: https://www.snapeda.com/parts/SN65HVD232D/Texas+Instruments/view-part/?ref=snap; Package: SOIC-8 Texas Instruments; Value: *; MF: Texas Instruments; MP: SN65HVD232D; Check_prices: https://www.snapeda.com/parts/SN65HVD232D/Texas+Instruments/view-part/?ref=eda; Supplier: Arrow Electronics; Supplier Part Number: SN65HVD232DR; Manufacturer: Texas Instruments; Manufacturer Part Number: SN65HVD232DR; RoHS: Compliant; Category: CAN Transceivers; Stock: 10000; Pricing: 2500=1,1159, 5000=1,076, 7500=1,062 (USD); Case/Package: SOIC; Data Rate: 1Mbps; Height: 1.75mm; Lead Free: Lead Free; Length: 4.9mm; Lifecycle Status: Production; Max Operating Temperature: 85°C; Min Operating Temperature: -40°C; Pins: 8; Number of Receive Buffers: 1; Number of Receivers: 1; Number of Transceivers: 1; Number of Transmit Buffers: 1; Packaging: Cut Tape; Radiation Hardening: No; REACH SVHC: No; Schedule B: 8542390000, 8542390000|8542390000|8542390000|8542390000|8542390000; Thickness: 1.58mm; Weight: 72.603129mg; Width: 3.91mm; ComponentLink1URL: https://octopart.com:443/opatz8j6/c1?t=KNMFt9M64p-_id6rZ0-P1CX6CGmvk_NFg0bt7DHXbi_P10EFF0MZE_9gM8ERckOxIywTBgDrXd4Bw1XwEAcVVdK92p9CEfdSNaVajf6_bxnez3EeN1RE1wZBaojbXTwQ_101S7Bb856c3hUAWErS0_zGIM1B6Z6dFQwv_Ps2SUdVVUCjmJkLnMLZKTBWfnIVcgJIheW78JYanUyW_1u-I93chBuiSPXQYIk2xXb9JgOyrE9lHEnesRSQq9luJOd1yknyGQP0N3Is0_dGM9QrGV5UOgjoada9tMnQwKJP8gahr3iTK59XJFH6OfbHTOm3R9BdESCrBMbrE2MVOGPPkVOTrqf0YMovDpmf-konbncFnSES8CNOhHqMwHv2HEwKcPoK44nl&src-supplier=Texas+Instruments; ComponentLink1Description: https://octopart.com:443/opatz8j6/c1?t=KNMFt9M64p-_id6rZ0-P1CX6CGmvk_NFg0bt7DHXbi_P10EFF0MZE_9gM8ERckOxIywTBgDrXd4Bw1XwEAcVVdK92p9CEfdSNaVajf6_bxnez3EeN1RE1wZBaojbXTwQ_101S7Bb856c3hUAWErS0_zGIM1B6Z6dFQwv_Ps2SUdVVUCjmJkLnMLZKTBWfnIVcgJIheW78JYanUyW_1u-I93chBuiSPXQYIk2xXb9JgOyrE9lHEnesRSQq9luJOd1yknyGQP0N3Is0_dGM9QrGV5UOgjoada9tMnQwKJP8gahr3iTK59XJFH6OfbHTOm3R9BdESCrBMbrE2MVOGPPkVOTrqf0YMovDpmf-konbncFnSES8CNOhHqMwHv2HEwKcPoK44nl&src-supplier=Texas+Instruments; ComponentLink2URL: https://sigma.octopart.com:443/49249642/technical_drawing/Texas-Instruments-SN65HVD232DR.pdf?src-supplier=Texas+Instruments; ComponentLink2Description: https://sigma.octopart.com:443/49249642/technical_drawing/Texas-Instruments-SN65HVD232DR.pdf?src-supplier=Texas+Instruments; ComponentLink3URL: https://datasheet.octopart.com:443/SN65HVD232DR-Texas-Instruments-datasheet-81447765.pdf?src-supplier=Upverter; ComponentLink3Description: https://datasheet.octopart.com:443/SN65HVD232DR-Texas-Instruments-datasheet-81447765.pdf?src-supplier=Upverter; ComponentLink4URL: https://datasheet.octopart.com:443/SN65HVD232DR-Texas-Instruments-datasheet-37140773.pdf?src-supplier=Newark; ComponentLink4Description: https://datasheet.octopart.com:443/SN65HVD232DR-Texas-Instruments-datasheet-37140773.pdf?src-supplier=Newark; ComponentLink5URL: https://datasheet.octopart.com:443/SN65HVD232DR-Texas-Instruments-datasheet-14436966.pdf?src-supplier=Newark; ComponentLink5Description: https://datasheet.octopart.com:443/SN65HVD232DR-Texas-Instruments-datasheet-14436966.pdf?src-supplier=Newark; ComponentLink6URL: https://datasheet.octopart.com:443/SN65HVD232DR-Texas-Instruments-datasheet-58296547.pdf?src-supplier=Newark; ComponentLink6Description: https://datasheet.octopart.com:443/SN65HVD232DR-Texas-Instruments-datasheet-58296547.pdf?src-supplier=Newark; ComponentLink7URL: https://datasheet.octopart.com:443/SN65HVD232DR-Texas-Instruments-datasheet-48117850.pdf?src-supplier=Newark; ComponentLink7Description: https://datasheet.octopart.com:443/SN65HVD232DR-Texas-Instruments-datasheet-48117850.pdf?src-supplier=Newark; ComponentLink8URL: https://datasheet.octopart.com:443/SN65HVD232DR-Texas-Instruments-datasheet-10256024.pdf?src-supplier=Arrow+Electronics; ComponentLink8Description: https://datasheet.octopart.com:443/SN65HVD232DR-Texas-Instruments-datasheet-10256024.pdf?src-supplier=Arrow+Electronics; ComponentLink9URL: https://datasheet.octopart.com:443/SN65HVD232DR-Texas-Instruments-datasheet-149765.pdf?src-supplier=Mouser; ComponentLink9Description: https://datasheet.octopart.com:443/SN65HVD232DR-Texas-Instruments-datasheet-149765.pdf?src-supplier=Mouser; ComponentLink10URL: https://datasheet.octopart.com:443/SN65HVD232DR-Texas-Instruments-datasheet-62292544.pdf?src-supplier=Farnell; ComponentLink10Description: https://datasheet.octopart.com:443/SN65HVD232DR-Texas-Instruments-datasheet-62292544.pdf?src-supplier=Farnell; ComponentLink11URL: https://datasheet.octopart.com:443/SN65HVD232DR-Texas-Instruments-datasheet-164416263.pdf?src-supplier=SHENGYU+ELECTRONICS; ComponentLink11Description: https://datasheet.octopart.com:443/SN65HVD232DR-Texas-Instruments-datasheet-164416263.pdf?src-supplier=SHENGYU+ELECTRONICS; ComponentLink12URL: https://datasheet.octopart.com:443/SN65HVD232DR-Texas-Instruments-datasheet-159115712.pdf?src-supplier=LCSC; ComponentLink12Description: https://datasheet.octopart.com:443/SN65HVD232DR-Texas-Instruments-datasheet-159115712.pdf?src-supplier=LCSC; ComponentLink13URL: https://datasheet.octopart.com:443/SN65HVD232DR-Texas-Instruments-datasheet-137316104.pdf?src-supplier=Future+Electronics; ComponentLink13Description: https://datasheet.octopart.com:443/SN65HVD232DR-Texas-Instruments-datasheet-137316104.pdf?src-supplier=Future+Electronics; ComponentLink14URL: https://datasheet.octopart.com:443/SN65HVD232DR-Texas-Instruments-datasheet-8625468.pdf?src-supplier=Verical; ComponentLink14Description: https://datasheet.octopart.com:443/SN65HVD232DR-Texas-Instruments-datasheet-8625468.pdf?src-supplier=Verical; ComponentLink15URL: https://datasheet.octopart.com:443/SN65HVD232DR-Texas-Instruments-datasheet-8378736.pdf?src-supplier=Verical; ComponentLink15Description: https://datasheet.octopart.com:443/SN65HVD232DR-Texas-Instruments-datasheet-8378736.pdf?src-supplier=Verical; ComponentLink16URL: http://sigma.octopart.com:80/conflict_mineral_statement/Texas-Instruments-company-63.pdf?src-supplier=Compliance+Statements; ComponentLink16Description: http://sigma.octopart.com:80/conflict_mineral_statement/Texas-Instruments-company-63.pdf?src-supplier=Compliance+Statements; ComponentLink17URL: http://sigma.octopart.com:80/reach_statement/Texas-Instruments-company-64.pdf?src-supplier=Compliance+Statements; ComponentLink17Description: http://sigma.octopart.com:80/reach_statement/Texas-Instruments-company-64.pdf?src-supplier=Compliance+Statements
footprint SN65HVD232D
pins: 1 D (in), 2 GND (power), 3 VCC (power), 4 R (out), 6 CANL (io), 7 CANH (io)

## SP0502BAJTG
designator D?
Integrated Circuit; Manufacturer_Name: LITTELFUSE; Manufacturer_Part_Number: SP0502BAJTG; Datasheet Link: https://www.littelfuse.com/~/media/electronics/datasheets/tvs_diode_arrays/littelfuse_tvs_diode_array_sp05_datasheet.pdf.pdf; Height: 1.1mm; Mouser Part Number: 576-SP0502BAJTG; Mouser Price/Stock: https://www.mouser.co.uk/ProductDetail/Littelfuse/SP0502BAJTG?qs=RnOBYWd%2Fz7cttN1Mwg4HWA%3D%3D; Arrow Part Number: SP0502BAJTG; Arrow Price/Stock: https://www.arrow.com/en/products/sp0502bajtg/littelfuse?region=nac
footprint SOT132P220X110-3N
pins: 1, 2, 3

## TC33X-2-503E
designator R?
Adjustable Resistors – SMD; BOURNS; TC33X-2-503E; Cermet; 1.2 mm; 100 mW; Surface Mount; Max Power Dissipation: 100mW; Number of Turns: 1; Power Dissipation: 150mW; Temperature Coefficient: 250ppm/°C; Tolerance: 25%; Voltage Rating (DC): 50V; SnapEDA_Link: https://www.snapeda.com/parts/TC33X-2-503E/Bourns/view-part/467769/?ref=snap; Package: 1608 Bourns; MP: TC33X-2-503E; MF: Bourns; Value: *; Check_prices: https://www.snapeda.com/parts/TC33X-2-503E/Bourns/view-part/467769/?ref=eda; Digi-Key_Part_Number: TC33X-503ECT-ND; Purchase-URL: https://pricing.snapeda.com/search/part/TC33X-2-503E/?ref=eda; Supplier: DigiKey; Supplier Part Number: TC33X-503ECT-ND; Manufacturer: Bourns; Manufacturer Part Number: TC33X-2-503E; RoHS: Compliant; Category: Variable Resistors and Potentiometers; Stock: 2932; Pricing: 1=0,25, 10=0,213, 25=0,1996, 50=0,1896, 100=0,18, 250=0,168, 500=0,15938, 1000=0,15119 (USD); Color: Silver; Composition: Cermet; Depth: 3.8mm; Height: 1.2mm; Lead Free: Contains Lead; Length: 3.8mm; Lifecycle Status: Production; Max Operating Temperature: 100°C; Military Standard: Not; Min Operating Temperature: -40°C; Mounting Technology: Surface Mount; Number of Terminals: 3; Packaging: Cut Tape; Power Rating: 100mW; Radiation Hardening: No; REACH SVHC: Yes; Schedule B: 8533400080, 8533400080|8533400080|8533400080|8533400080|8533400080; Termination: Foot Print; Weight: 29.4mg; Width: 3.6mm; Working Voltage: 50V; ComponentLink1URL: https://datasheet.octopart.com:443/TC33X-2-503E-Bourns-datasheet-182142024.pdf?src-supplier=IHS; ComponentLink1Description: https://datasheet.octopart.com:443/TC33X-2-503E-Bourns-datasheet-182142024.pdf?src-supplier=IHS; ComponentLink2URL: https://datasheet.octopart.com:443/TC33X-2-503E-Bourns-datasheet-11551316.pdf?src-supplier=Electro+Sonic; ComponentLink2Description: https://datasheet.octopart.com:443/TC33X-2-503E-Bourns-datasheet-11551316.pdf?src-supplier=Electro+Sonic; ComponentLink3URL: https://datasheet.octopart.com:443/TC33X-2-503E-Bourns-datasheet-154730028.pdf?src-supplier=Electro+Sonic; ComponentLink3Description: https://datasheet.octopart.com:443/TC33X-2-503E-Bourns-datasheet-154730028.pdf?src-supplier=Electro+Sonic; ComponentLink4URL: https://datasheet.octopart.com:443/TC33X-2-503E-Bourns-datasheet-67039831.pdf?src-supplier=element14+APAC; ComponentLink4Description: https://datasheet.octopart.com:443/TC33X-2-503E-Bourns-datasheet-67039831.pdf?src-supplier=element14+APAC; ComponentLink5URL: https://datasheet.octopart.com:443/TC33X-2-503E-Bourns-datasheet-164917123.pdf?src-supplier=Newark; ComponentLink5Description: https://datasheet.octopart.com:443/TC33X-2-503E-Bourns-datasheet-164917123.pdf?src-supplier=Newark; ComponentLink6URL: https://datasheet.octopart.com:443/TC33X-2-503E-Bourns-datasheet-26822215.pdf?src-supplier=Newark; ComponentLink6Description: https://datasheet.octopart.com:443/TC33X-2-503E-Bourns-datasheet-26822215.pdf?src-supplier=Newark; ComponentLink7URL: https://datasheet.octopart.com:443/TC33X-2-503E-Bourns-datasheet-41964919.pdf?src-supplier=Newark; ComponentLink7Description: https://datasheet.octopart.com:443/TC33X-2-503E-Bourns-datasheet-41964919.pdf?src-supplier=Newark; ComponentLink8URL: https://datasheet.octopart.com:443/TC33X-2-503E-Bourns-datasheet-47549324.pdf?src-supplier=RS+(Formerly+Allied+Electronics); ComponentLink8Description: https://datasheet.octopart.com:443/TC33X-2-503E-Bourns-datasheet-47549324.pdf?src-supplier=RS+(Formerly+Allied+Electronics); ComponentLink9URL: https://datasheet.octopart.com:443/TC33X-2-503E-Bourns-datasheet-549861.pdf?src-supplier=RS+(Formerly+Allied+Electronics); ComponentLink9Description: https://datasheet.octopart.com:443/TC33X-2-503E-Bourns-datasheet-549861.pdf?src-supplier=RS+(Formerly+Allied+Electronics); ComponentLink10URL: https://datasheet.octopart.com:443/TC33X-2-503E-Bourns-datasheet-21366158.pdf?src-supplier=Farnell; ComponentLink10Description: https://datasheet.octopart.com:443/TC33X-2-503E-Bourns-datasheet-21366158.pdf?src-supplier=Farnell; ComponentLink11URL: https://datasheet.octopart.com:443/TC33X-2-503E-Bourns-datasheet-38800.pdf?src-supplier=Farnell; ComponentLink11Description: https://datasheet.octopart.com:443/TC33X-2-503E-Bourns-datasheet-38800.pdf?src-supplier=Farnell; ComponentLink12URL: https://datasheet.octopart.com:443/TC33X-2-503E-Bourns-datasheet-5319878.pdf?src-supplier=element14; ComponentLink12Description: https://datasheet.octopart.com:443/TC33X-2-503E-Bourns-datasheet-5319878.pdf?src-supplier=element14; ComponentLink13URL: https://datasheet.octopart.com:443/TC33X-2-503E-Bourns-datasheet-14175263.pdf?src-supplier=iiiC; ComponentLink13Description: https://datasheet.octopart.com:443/TC33X-2-503E-Bourns-datasheet-14175263.pdf?src-supplier=iiiC; ComponentLink14URL: https://datasheet.octopart.com:443/TC33X-2-503E-Bourns-datasheet-39003.pdf?src-supplier=Mouser; ComponentLink14Description: https://datasheet.octopart.com:443/TC33X-2-503E-Bourns-datasheet-39003.pdf?src-supplier=Mouser; ComponentLink15URL: http://sigma.octopart.com:80/conflict_mineral_statement/Bourns-company-36.pdf?src-supplier=Compliance+Statements; ComponentLink15Description: http://sigma.octopart.com:80/conflict_mineral_statement/Bourns-company-36.pdf?src-supplier=Compliance+Statements
footprint TRIM_TC33X-2-503E (Footprint not found)
pins: 1 CCW, 2 W, 3 CW

## TestPoint
designator TP?, comment TP
footprint Test_Point
pins: 1

## TL3305BF100QG
designator S?
TL3305 Ultra-Miniature Tact Switch 100gf 5.0mm actuator Silver Contact Gullwing; Manufacturer_Name: E-Switch; Manufacturer_Part_Number: TL3305BF100QG; Datasheet Link: https://configured-product-images.s3.amazonaws.com/2D/specs/TL3305BF100QG.pdf; Mouser Part Number: 612-TL3305BF100QG; Mouser Price/Stock: https://www.mouser.co.uk/ProductDetail/E-Switch/TL3305BF100QG?qs=IKkN%2F947nfDIPwqPQja%252BvQ%3D%3D; Supplier: Farnell; Supplier Part Number: 4539028; Manufacturer: E-Switch; Manufacturer Part Number: TL3305BF100QG; RoHS: Compliant; Category: Tactile Switches; Stock: 11760; ComponentLink1URL: https://datasheet.octopart.com:443/TL3305BF100QG-E-Switch-datasheet-181388209.pdf?src-supplier=Future+Electronics; ComponentLink1Description: https://datasheet.octopart.com:443/TL3305BF100QG-E-Switch-datasheet-181388209.pdf?src-supplier=Future+Electronics; ComponentLink2URL: https://datasheet.octopart.com:443/TL3305BF100QG-E-Switch-datasheet-188129426.pdf?src-supplier=Future+Electronics; ComponentLink2Description: https://datasheet.octopart.com:443/TL3305BF100QG-E-Switch-datasheet-188129426.pdf?src-supplier=Future+Electronics
footprint TL3305BF160QG
pins: 1, 2, 3, 4